# Altium schematic symbol library 杂项.SchLib: 10 symbols
Pins are listed as number, name and electrical type; pins without a type are passive.

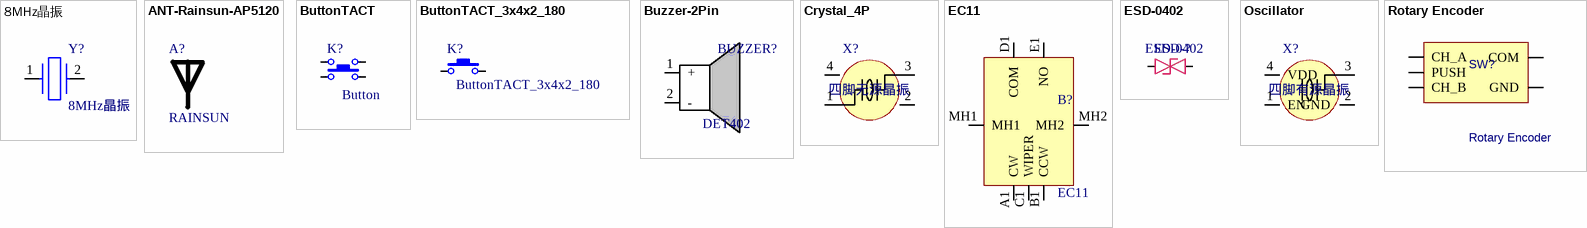
[diagram p0: symbols 8MHz晶振 to Rotary Encoder]

## 8MHz晶振
designator Y?
Crystal or Oscillator; Manufacturer_Name: Vishay; Manufacturer_Part_Number: XT9M20ANA8M; Datasheet Link: https://componentsearchengine.com/Datasheets/2/XT9M20ANA8M.pdf; Height: 4.5mm; Mouser Part Number: 73-XT49M800-20; Mouser Price/Stock: https://www.mouser.co.uk/ProductDetail/Vishay-Dale/XT9M20ANA8M?qs=n8eVfDjedmFcUGyWy2y9%2FQ%3D%3D; Arrow Part Number: XT9M20ANA8M; Arrow Price/Stock: null?region=nac
footprint HC-49_SMD
pins: 1 CRYSTAL_1, 2 CRYSTAL_2

## ANT-Rainsun-AP5120
designator A?, comment RAINSUN
footprint ANT-Rainsun-AN5120 (选择焊盘)
pins: 1

## ButtonTACT
designator K?, comment Button
value: 3.4x3.5; type: TACT 4P
footprint ButtonTACT_3.5*3.55_90
pins: 1, 2, 3, 4

## ButtonTACT_3x4x2_180
designator K?
value: 3x4; type: TACT 2P
footprint ButtonTACT_3x4x2_180
pins: 1, 2

## Buzzer-2Pin
designator BUZZER?, comment DET402
footprint DET402
footprint BUZ-TH_BD9.0-P4.00-D0.6-FD
pins: 1 +, 2 -

## Crystal_4P
designator X?, comment 四脚无源晶振
Manufacturer: TAITIEN(泰艺电子); Symbol: XYDBPCNANF-12MHZ; Add into BOM: yes; Name: -; Device: XYDBPCNANF-12MHZ; Convert to PCB: yes; LCSC Part Name: 12MHz 12pF ±10ppm -20~+70℃; Supplier Part: C521567; Manufacturer Part: XYDBPCNANF-12MHZ; Supplier Footprint: SMD2520-4P; JLCPCB Part Class: 扩展库; Datasheet: https://atta.szlcsc.com/upload/public/pdf/source/20200427/C521567_8D8DDB0F2E066B5BAD7A5878EBE465E2.pdf; Supplier: LCSC; Crystal Type: -; Value: -; Frequency Tolerance: -; Frequency Stability: -; Load Capacitance: -; Operating Temperature: -
footprint CARSTAL_4P_2520 (CARSTAL_2520)
pins: 1, 2 GND, 3, 4 GND

## EC11
designator B?
Electromechanical Switch Self-Return Switch 0.01A 5VDC - Trays 11mm Size Metal Shaft Type EC11 Series; Manufacturer_Name: ALPS Electric; Manufacturer_Part_Number: EC111012010H; Geometry.Height: 25mm; Mouser Part Number: 688-EC111012010H; Mouser Price/Stock: https://www.mouser.co.uk/ProductDetail/Alps-Alpine/EC111012010H?qs=YMSFtX0bdJDrbcKzFtERqA%3D%3D; Arrow Part Number: *; Arrow Price/Stock: *; Datasheet Link: https://tech.alpsalpine.com/prod/e/html/encoder/incremental/ec11/ec111012010h.html
footprint EC11
pins: A1 CW, B1 CCW, C1 WIPER, D1 COM, E1 NO, MH1, MH2

## ESD-0402
designator ESD-?
ESD
footprint ESD-0402
pins: 1, 2

## Oscillator
designator X?, comment 四脚有源晶振
Manufacturer: TAITIEN(泰艺电子); Symbol: XYDBPCNANF-12MHZ; Add into BOM: yes; Name: -; Device: XYDBPCNANF-12MHZ; Convert to PCB: yes; LCSC Part Name: 12MHz 12pF ±10ppm -20~+70℃; Supplier Part: C521567; Manufacturer Part: XYDBPCNANF-12MHZ; Supplier Footprint: SMD2520-4P; JLCPCB Part Class: 扩展库; Datasheet: https://atta.szlcsc.com/upload/public/pdf/source/20200427/C521567_8D8DDB0F2E066B5BAD7A5878EBE465E2.pdf; Supplier: LCSC; Crystal Type: -; Value: -; Frequency Tolerance: -; Frequency Stability: -; Load Capacitance: -; Operating Temperature: -
footprint CARSTAL_4P_2520 (CARSTAL_2520)
pins: 1 EN, 2 GND, 3, 4 VDD

## Rotary Encoder
designator SW?
BOM_Manufacturer: ALPSALPINE; BOM_Manufacturer Part: EC11E1534443; Contributor: LCSC; BOM_Supplier: LCSC; BOM_Supplier Part: C1322543; BOM_JLCPCB Part Class: Extended Part; spicePre: S; spiceSymbolName: EC11E1534443
footprint SIQ-02FVS3
pins: 1 CH_A, 2 PUSH, 3 COM, 4 CH_B, 5 GND